# Altium schematic symbol library Headers.SchLib: 2 symbols
Pins are listed as number, name and electrical type; pins without a type are passive.

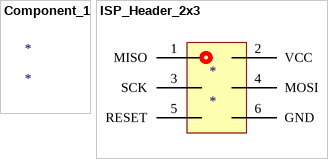
[diagram p0: symbols Component_1 to ISP_Header_2x3]

## Component_1
designator *

## ISP_Header_2x3
designator *
pins: 1 MISO, 2 VCC, 3 SCK, 4 MOSI, 5 RESET, 6 GND